# Altium schematic symbol library 2021-03-02_19-41-42.SchLib: 1 symbol
Pins are listed as number, name and electrical type; pins without a type are passive.

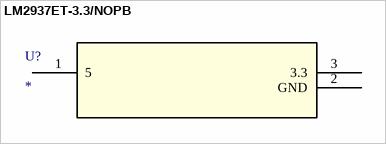
[diagram p0: symbol LM2937ET-3.3/NOPB]

## LM2937ET-3.3/NOPB
designator U?
No Description Available; PartNumber: LM2937ET-10; Comp: TypeLDO; Vendor: NationalSemiconductor; base_pn: LM2937; Symbol: NameLM2937ET-10; Library: ReferenceLM2937ET; Type: DEV; Version: 1; Pin: Count3; Copyright: Copyright (C) 2018 Accelerated Designs. All rights reserved; RefDes: RefDes
footprint T03B
pins: 1 5 (power), 2 GND (power), 3 3.3 (power)